# Altium footprint library Fuse.PcbLib: 117 footprints (part 2 of 8)
Each footprint in its own frame and in the unit in brackets; x right, y up, seen from the top. Pads: shape width x height; smd on the part's side, far side on the other; paste and mask are expansions set on the pad; w line width, h text height; cw(c..) or ccw(c..) is an arc to the next point about the centre after c.
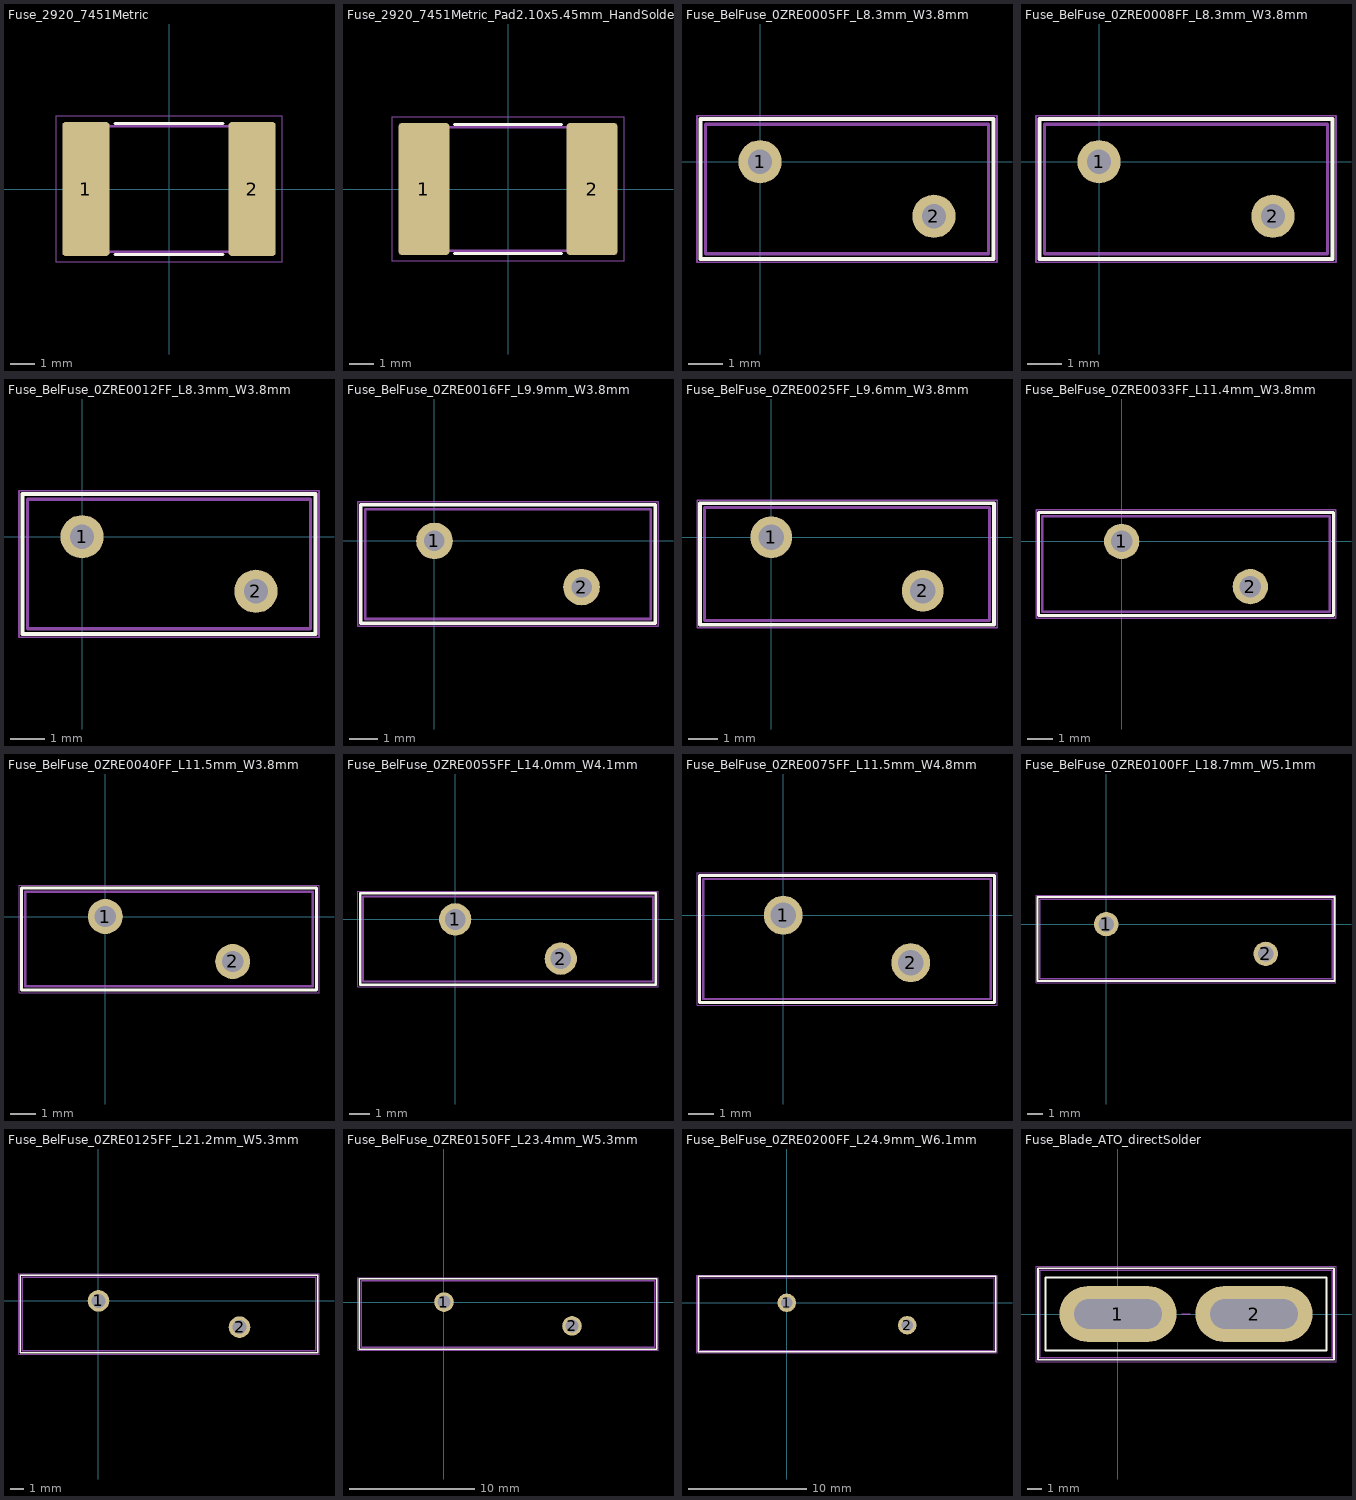
[diagram p1: the footprints below, top view; thin cyan lines are the x and y axes]

## Fuse_2920_7451Metric [mm]
pads (2):
  rrect13% 1.925x5.45 smd: 1(-3.387,0) 2(3.387,0)
F.SilkS:
  lines w0.12: -2.204,-2.67 2.204,-2.67 ; -2.204,2.67 2.204,2.67
F.CrtYd:
  lines w0.05: -4.6,-2.98 -4.6,2.98 4.6,2.98 4.6,-2.98 -4.6,-2.98
F.Fab:
  lines w0.1: -3.678,-2.56 3.678,-2.56 3.678,2.56 -3.678,2.56 -3.678,-2.56
  text "'.Designator'" at -4.047,-0.84 h1

## Fuse_2920_7451Metric_Pad2.10x5.45mm_HandSolder [mm]
pads (2):
  rrect12% 2.1x5.45 smd: 1(-3.475,0) 2(3.475,0)
F.SilkS:
  lines w0.12: -2.204,-2.67 2.204,-2.67 ; -2.204,2.67 2.204,2.67
F.CrtYd:
  lines w0.05: -4.78,-2.98 -4.78,2.98 4.78,2.98 4.78,-2.98 -4.78,-2.98
F.Fab:
  lines w0.1: -3.678,-2.56 3.678,-2.56 3.678,2.56 -3.678,2.56 -3.678,-2.56
  text "'.Designator'" at -4.047,-0.84 h1

## Fuse_BelFuse_0ZRE0005FF_L8.3mm_W3.8mm [mm]
pads (2):
  round 1.27 hole 0.71: 1(0,0) 2(5.1,-1.6)
F.SilkS:
  lines w0.12: -1.75,-2.85 6.85,-2.85 6.85,1.25 -1.75,1.25 -1.75,-2.85
F.CrtYd:
  lines w0.05: -1.85,-2.95 6.95,-2.95 6.95,1.35 -1.85,1.35 -1.85,-2.95
F.Fab:
  lines w0.1: -1.6,-2.7 -1.6,1.1 6.7,1.1 6.7,-2.7 -1.6,-2.7
  text "'.Designator'" at -0.237,-0.84 h1
3D body "Fuse_BelFuse_0ZRE_0ZRE0005FF_L8.3mm_W3.8mm.step": height 10.7, standoff -2.5, extent -1.588,-2.11 6.7,0.51

## Fuse_BelFuse_0ZRE0008FF_L8.3mm_W3.8mm [mm]
pads (2):
  round 1.27 hole 0.71: 1(0,0) 2(5.1,-1.6)
F.SilkS:
  lines w0.12: -1.75,-2.85 6.85,-2.85 6.85,1.25 -1.75,1.25 -1.75,-2.85
F.CrtYd:
  lines w0.05: -1.85,-2.95 -1.85,1.35 6.95,1.35 6.95,-2.95 -1.85,-2.95
F.Fab:
  lines w0.1: -1.6,-2.7 -1.6,1.1 6.7,1.1 6.7,-2.7 -1.6,-2.7
  text "'.Designator'" at -0.237,-0.84 h1
3D body "Fuse_BelFuse_0ZRE_0ZRE0008FF_L8.3mm_W3.8mm.step": height 10.7, standoff -2.5, extent -1.588,-2.11 6.7,0.51

## Fuse_BelFuse_0ZRE0012FF_L8.3mm_W3.8mm [mm]
pads (2):
  round 1.27 hole 0.71: 1(0,0) 2(5.1,-1.6)
F.SilkS:
  lines w0.12: -1.75,-2.85 -1.75,1.25 6.85,1.25 6.85,-2.85 -1.75,-2.85
F.CrtYd:
  lines w0.05: -1.85,-2.95 6.95,-2.95 6.95,1.35 -1.85,1.35 -1.85,-2.95
F.Fab:
  lines w0.1: -1.6,-2.7 -1.6,1.1 6.7,1.1 6.7,-2.7 -1.6,-2.7
  text "'.Designator'" at -0.237,-0.84 h1
3D body "Fuse_BelFuse_0ZRE_0ZRE0012FF_L8.3mm_W3.8mm.step": height 10.7, standoff -2.5, extent -1.588,-2.11 6.7,0.51

## Fuse_BelFuse_0ZRE0016FF_L9.9mm_W3.8mm [mm]
pads (2):
  round 1.27 hole 0.71: 1(0,0) 2(5.1,-1.6)
F.SilkS:
  lines w0.12: -2.55,-2.85 7.65,-2.85 7.65,1.25 -2.55,1.25 -2.55,-2.85
F.CrtYd:
  lines w0.05: -2.65,-2.95 -2.65,1.35 7.75,1.35 7.75,-2.95 -2.65,-2.95
F.Fab:
  lines w0.1: -2.4,-2.7 -2.4,1.1 7.5,1.1 7.5,-2.7 -2.4,-2.7
  text "'.Designator'" at -0.237,-0.84 h1
3D body "Fuse_BelFuse_0ZRE_0ZRE0016FF_L9.9mm_W3.8mm.step": height 12.5, standoff -2.5, extent -2.388,-2.11 7.5,0.51

## Fuse_BelFuse_0ZRE0025FF_L9.6mm_W3.8mm [mm]
pads (2):
  round 1.4 hole 0.85: 1(0,0) 2(5.1,-1.8)
F.SilkS:
  lines w0.12: -2.4,-2.95 7.5,-2.95 7.5,1.15 -2.4,1.15 -2.4,-2.95
F.CrtYd:
  lines w0.05: -2.5,-3.05 -2.5,1.25 7.6,1.25 7.6,-3.05 -2.5,-3.05
F.Fab:
  lines w0.1: -2.25,-2.8 -2.25,1 7.35,1 7.35,-2.8 -2.25,-2.8
  text "'.Designator'" at -0.237,-0.84 h1
3D body "Fuse_BelFuse_0ZRE_0ZRE0025FF_L9.6mm_W3.8mm.step": height 17.4, standoff -2.5, extent -2.25,-2.45 7.35,0.65

## Fuse_BelFuse_0ZRE0033FF_L11.4mm_W3.8mm [mm]
pads (2):
  round 1.4 hole 0.85: 1(0,0) 2(5.1,-1.8)
F.SilkS:
  lines w0.12: -3.3,-2.95 -3.3,1.15 8.4,1.15 8.4,-2.95 -3.3,-2.95
F.CrtYd:
  lines w0.05: -3.4,-3.05 8.5,-3.05 8.5,1.25 -3.4,1.25 -3.4,-3.05
F.Fab:
  lines w0.1: -3.15,-2.8 -3.15,1 8.25,1 8.25,-2.8 -3.15,-2.8
  text "'.Designator'" at -0.237,-0.84 h1
3D body "Fuse_BelFuse_0ZRE_0ZRE0033FF_L11.4mm_W3.8mm.step": height 16.5, standoff -2.5, extent -3.15,-2.45 8.25,0.65

## Fuse_BelFuse_0ZRE0040FF_L11.5mm_W3.8mm [mm]
pads (2):
  round 1.4 hole 0.85: 1(0,0) 2(5.1,-1.8)
F.SilkS:
  lines w0.12: -3.35,-2.95 8.45,-2.95 8.45,1.15 -3.35,1.15 -3.35,-2.95
F.CrtYd:
  lines w0.05: -3.45,-3.05 8.55,-3.05 8.55,1.25 -3.45,1.25 -3.45,-3.05
F.Fab:
  lines w0.1: -3.2,-2.8 8.3,-2.8 8.3,1 -3.2,1 -3.2,-2.8
  text "'.Designator'" at -0.237,-0.84 h1
3D body "Fuse_BelFuse_0ZRE_0ZRE0040FF_L11.5mm_W3.8mm.step": height 19.5, standoff -2.5, extent -3.2,-2.45 8.3,0.65

## Fuse_BelFuse_0ZRE0055FF_L14.0mm_W4.1mm [mm]
pads (2):
  round 1.56 hole 1.01: 1(0,0) 2(5.1,-1.9)
F.SilkS:
  lines w0.12: -4.6,-3.15 -4.6,1.25 9.7,1.25 9.7,-3.15 -4.6,-3.15
F.CrtYd:
  lines w0.05: -4.7,-3.25 9.8,-3.25 9.8,1.35 -4.7,1.35 -4.7,-3.25
F.Fab:
  lines w0.1: -4.45,-3 9.55,-3 9.55,1.1 -4.45,1.1 -4.45,-3
  text "'.Designator'" at -0.237,-0.84 h1
3D body "Fuse_BelFuse_0ZRE_0ZRE0055FF_L14.0mm_W4.1mm.step": height 21.7, standoff -2.5, extent -4.45,-2.71 9.55,0.81

## Fuse_BelFuse_0ZRE0075FF_L11.5mm_W4.8mm [mm]
pads (2):
  round 1.56 hole 1.01: 1(0,0) 2(5.1,-1.9)
F.SilkS:
  lines w0.12: -3.35,-3.5 8.45,-3.5 8.45,1.6 -3.35,1.6 -3.35,-3.5
F.CrtYd:
  lines w0.05: -3.45,-3.6 8.55,-3.6 8.55,1.7 -3.45,1.7 -3.45,-3.6
F.Fab:
  lines w0.1: -3.2,-3.35 -3.2,1.45 8.3,1.45 8.3,-3.35 -3.2,-3.35
  text "'.Designator'" at -0.237,-0.84 h1
3D body "Fuse_BelFuse_0ZRE_0ZRE0075FF_L11.5mm_W4.8mm.step": height 23.4, standoff -2.5, extent -3.2,-2.71 8.3,0.81

## Fuse_BelFuse_0ZRE0100FF_L18.7mm_W5.1mm [mm]
pads (2):
  round 1.56 hole 1.01: 1(0,0) 2(10.2,-1.9)
F.SilkS:
  lines w0.12: -4.4,-3.65 -4.4,1.75 14.6,1.75 14.6,-3.65 -4.4,-3.65
F.CrtYd:
  lines w0.05: -4.5,-3.75 14.7,-3.75 14.7,1.85 -4.5,1.85 -4.5,-3.75
F.Fab:
  lines w0.1: -4.25,-3.5 14.45,-3.5 14.45,1.6 -4.25,1.6 -4.25,-3.5
  text "'.Designator'" at 1.653,-1.24 h1
3D body "Fuse_BelFuse_0ZRE_0ZRE0100FF_L18.7mm_W5.1mm.step": height 24.39, standoff -2.5, extent -4.25,-2.71 14.45,0.81

## Fuse_BelFuse_0ZRE0125FF_L21.2mm_W5.3mm [mm]
pads (2):
  round 1.56 hole 1.01: 1(0,0) 2(10.2,-1.9)
F.SilkS:
  lines w0.12: -5.65,-3.75 -5.65,1.85 15.85,1.85 15.85,-3.75 -5.65,-3.75
F.CrtYd:
  lines w0.05: -5.75,-3.85 15.95,-3.85 15.95,1.95 -5.75,1.95 -5.75,-3.85
F.Fab:
  lines w0.1: -5.5,-3.6 15.7,-3.6 15.7,1.7 -5.5,1.7 -5.5,-3.6
  text "'.Designator'" at 1.953,-1.34 h1
3D body "Fuse_BelFuse_0ZRE_0ZRE0125FF_L21.2mm_W5.3mm.step": height 27.4, standoff -2.5, extent -5.487,-2.71 15.7,0.81

## Fuse_BelFuse_0ZRE0150FF_L23.4mm_W5.3mm [mm]
pads (2):
  round 1.56 hole 1.01: 1(0,0) 2(10.2,-1.9)
F.SilkS:
  lines w0.12: -6.75,-3.75 -6.75,1.85 16.95,1.85 16.95,-3.75 -6.75,-3.75
F.CrtYd:
  lines w0.05: -6.85,-3.85 17.05,-3.85 17.05,1.95 -6.85,1.95 -6.85,-3.85
F.Fab:
  lines w0.1: -6.6,-3.6 16.8,-3.6 16.8,1.7 -6.6,1.7 -6.6,-3.6
  text "'.Designator'" at 1.853,-0.94 h1
3D body "Fuse_BelFuse_0ZRE_0ZRE0150FF_L23.4mm_W5.3mm.step": height 30.88, standoff -2.5, extent -6.6,-2.71 16.8,0.81

## Fuse_BelFuse_0ZRE0200FF_L24.9mm_W6.1mm [mm]
pads (2):
  round 1.56 hole 1.01: 1(0,0) 2(10.2,-1.9)
F.SilkS:
  lines w0.12: -7.5,-4.15 17.7,-4.15 17.7,2.25 -7.5,2.25 -7.5,-4.15
F.CrtYd:
  lines w0.05: -7.6,-4.25 -7.6,2.35 17.8,2.35 17.8,-4.25 -7.6,-4.25
F.Fab:
  lines w0.1: -7.35,-4 -7.35,2.1 17.55,2.1 17.55,-4 -7.35,-4
  text "'.Designator'" at 2.153,-0.84 h1
3D body "Fuse_BelFuse_0ZRE_0ZRE0200FF_L24.9mm_W6.1mm.step": height 33.8, standoff -2.5, extent -7.35,-2.71 17.55,0.81

## Fuse_Blade_ATO_directSolder [mm]
pads (2):
  rrect100% 8x3.8 hole 2 slot 6 at 0 deg: 1(0,0) 2(9.3,0)
F.SilkS:
  lines w0.12: -5.47,-3.12 14.77,-3.12 14.77,3.12 -5.47,3.12 -5.47,-3.12 ; -4.95,-2.5 14.25,-2.5 14.25,2.5 -4.95,2.5 -4.95,-2.5
F.CrtYd:
  lines w0.05: -5.6,-3.25 14.9,-3.25 14.9,3.25 -5.6,3.25 -5.6,-3.25
F.Fab:
  lines w0.1: 4.35,0 4.95,0 ; -5.35,-3 -5.35,3 14.65,3 14.65,-3 -5.35,-3
  text "'.Designator'" at 0.703,0.66 h1